# Altium schematic symbol library USB4800-03-A.SchLib: 1 symbol
Pins are listed as number, name and electrical type; pins without a type are passive.

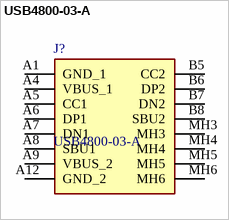
[diagram p0: symbol USB4800-03-A]

## USB4800-03-A
designator J?
USB Connectors USB2.0 Type C Rcpt, SMT, Hrz, 3.5mm elevated, 16 Pin; Manufacturer_Name: GCT (GLOBAL CONNECTOR TECHNOLOGY); Geometry.Height: 5.58mm; Mouser Part Number: 640-USB4800-03-A; Mouser Price/Stock: https://www.mouser.co.uk/ProductDetail/GCT/USB4800-03-A?qs=vvQtp7zwQdMkfG8vViEZoQ%3D%3D; Manufacturer_Part_Number: USB4800-03-A; Datasheet Link: https://gct.co/connector/usb4800
footprint USB480003A
pins: A1 GND_1, A4 VBUS_1, A5 CC1, A6 DP1, A7 DN1, A8 SBU1, A9 VBUS_2, A12 GND_2, B5 CC2, B6 DP2, B7 DN2, B8 SBU2, MH3, MH4, MH5, MH6